# Altium footprint library audio.PcbLib: 2 footprints
Each footprint in its own frame and in the unit in brackets; x right, y up, seen from the top. Pads: shape width x height; smd on the part's side, far side on the other; paste and mask are expansions set on the pad; w line width, h text height; cw(c..) or ccw(c..) is an arc to the next point about the centre after c.
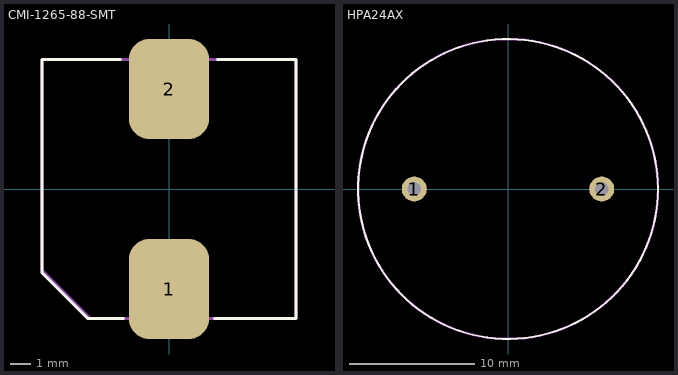
[diagram p0: the footprints below, top view; thin cyan lines are the x and y axes]

## CMI-1265-88-SMT [mm]
pads (2):
  rrect50% 4x5 smd: 1(0,-5) 2(0,5)
Top Overlay:
  lines w0.15: -2.413,6.477 -6.35,6.477 -6.35,-4.191 -4.064,-6.477 -2.286,-6.477 ; 2.286,-6.477 6.35,-6.477 6.35,6.477 2.413,6.477
  text "." at -2.54,-7.112 h0.1
Top Courtyard:
  lines w0.15: -6.35,-4.064 -3.937,-6.477 6.35,-6.477 6.35,6.477 -6.35,6.477 -6.35,-4.064
3D body "CUI_DEVICES_CMI-1265-88-SMT-TR.step": height 6.5, standoff -0.6, extent -6.4,-6.95 6.4,6.95

## HPA24AX [mm]
height 9.5
pads (2):
  round 2 hole 1.1: 1(-7.5,0) 2(7.5,0)
Top Overlay:
  circle w0.15: c0,0 r12
  text "." at -12.7,0 h0.1
Top Courtyard:
  circle w0.2: c0,0 r12.004
3D body: height 10, standoff 0.5, extent -11.75,-11.747 11.75,11.747